# EAGLE library part TELIT-GE865 (library Pygmy)
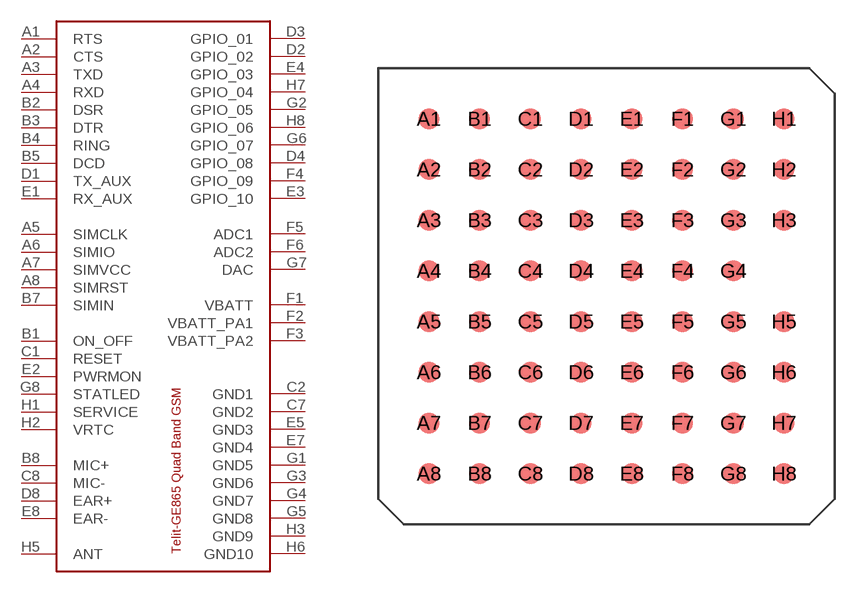
[diagram p26: symbol with the pads of TELIT-GE865; footprint TELIT-GE865]

Designator prefix -

## TELIT-GE865T  [TELIT-GE865]
A1  RTS
A2  CTS
A3  TXD
A4  RXD
A5  SIMCLK
A6  SIMIO
A7  SIMVCC
A8  SIMRST
B1  ON_OFF
B2  DSR
B3  DTR
B4  RING
B5  DCD
B7  SIMIN
B8  MIC+
C1  RESET
C2  GND1
C7  GND2
C8  MIC-
D1  TX_AUX
D2  GPIO_02
D3  GPIO_01
D4  GPIO_08
D8  EAR+
E1  RX_AUX
E2  PWRMON
E3  GPIO_10
E4  GPIO_03
E5  GND3
E7  GND4
E8  EAR-
F1  VBATT
F2  VBATT_PA1
F3  VBATT_PA2
F4  GPIO_09
F5  ADC1
F6  ADC2
G1  GND5
G2  GPIO_05
G3  GND6
G4  GND7
G5  GND8
G6  GPIO_07
G7  DAC
G8  STATLED
H1  SERVICE
H2  VRTC
H3  GND9
H5  ANT
H6  GND10
H7  GPIO_04
H8  GPIO_06

## Footprint TELIT-GE865 (pad centres in mm)
smd 1 x 1: A1 0,0; A2 0,-2.4; A3 0,-4.8; A4 0,-7.2; A5 0,-9.6; A6 0,-12; A7 0,-14.4; A8 0,-16.8; B1 2.4,0; B2 2.4,-2.4; B3 2.4,-4.8; B4 2.4,-7.2; B5 2.4,-9.6; B6 2.4,-12; B7 2.4,-14.4; B8 2.4,-16.8; C1 4.8,0; C2 4.8,-2.4; C3 4.8,-4.8; C4 4.8,-7.2; C5 4.8,-9.6; C6 4.8,-12; C7 4.8,-14.4; C8 4.8,-16.8; D1 7.2,0; D2 7.2,-2.4; D3 7.2,-4.8; D4 7.2,-7.2; D5 7.2,-9.6; D6 7.2,-12; D7 7.2,-14.4; D8 7.2,-16.8; E1 9.6,0; E2 9.6,-2.4; E3 9.6,-4.8; E4 9.6,-7.2; E5 9.6,-9.6; E6 9.6,-12; E7 9.6,-14.4; E8 9.6,-16.8; F1 12,0; F2 12,-2.4; F3 12,-4.8; F4 12,-7.2; F5 12,-9.6; F6 12,-12; F7 12,-14.4; F8 12,-16.8; G1 14.4,0; G2 14.4,-2.4; G3 14.4,-4.8; G4 14.4,-7.2; G5 14.4,-9.6; G6 14.4,-12; G7 14.4,-14.4; G8 14.4,-16.8; H1 16.8,0; H2 16.8,-2.4; H3 16.8,-4.8; H5 16.8,-9.6; H6 16.8,-12; H7 16.8,-14.4; H8 16.8,-16.8